# Altium schematic symbol library Schlib1.SchLib: 8 symbols
Pins are listed as number, name and electrical type; pins without a type are passive.

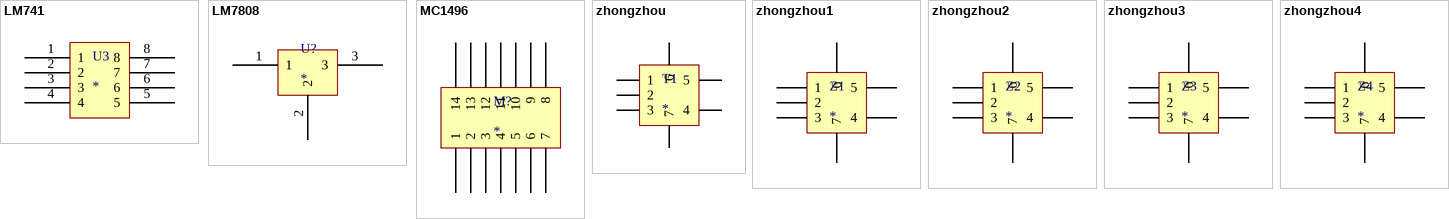
[diagram p0: symbols LM741 to zhongzhou4]

## LM741
designator U3
pins: 1, 2, 3, 4, 5, 6, 7, 8

## LM7808
designator U?
pins: 1, 2, 3

## MC1496
designator M?
pins: 1, 2, 3, 4, 5, 6, 7, 8, 9, 10, 11, 12, 13, 14

## zhongzhou
designator T1
pins: 1, 2, 3, 4, 5, 6, 7

## zhongzhou1
designator Z1
pins: 1, 2, 3, 4, 5, 6, 7

## zhongzhou2
designator Z2
pins: 1, 2, 3, 4, 5, 6, 7

## zhongzhou3
designator Z3
pins: 1, 2, 3, 4, 5, 6, 7

## zhongzhou4
designator Z4
pins: 1, 2, 3, 4, 5, 6, 7